# Altium schematic symbol library 数模_模数IC.SchLib: 1 symbol
Pins are listed as number, name and electrical type; pins without a type are passive.

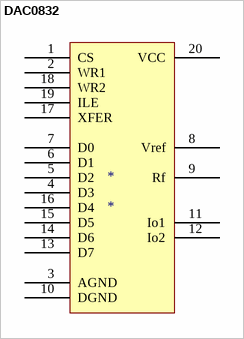
[diagram p0: symbol DAC0832]

## DAC0832
designator *
footprint DIP-20
pins: 1 CS, 2 WR1, 3 AGND, 4 D3, 5 D2, 6 D1, 7 D0, 8 Vref, 9 Rf, 10 DGND, 11 Io1, 12 Io2, 13 D7, 14 D6, 15 D5, 16 D4, 17 XFER, 18 WR2, 19 ILE, 20 VCC